# Altium footprint library 13A212Y9.PcbLib: 1 footprints
Each footprint in its own frame and in the unit in brackets; x right, y up, seen from the top. Pads: shape width x height; smd on the part's side, far side on the other; paste and mask are expansions set on the pad; w line width, h text height; cw(c..) or ccw(c..) is an arc to the next point about the centre after c.
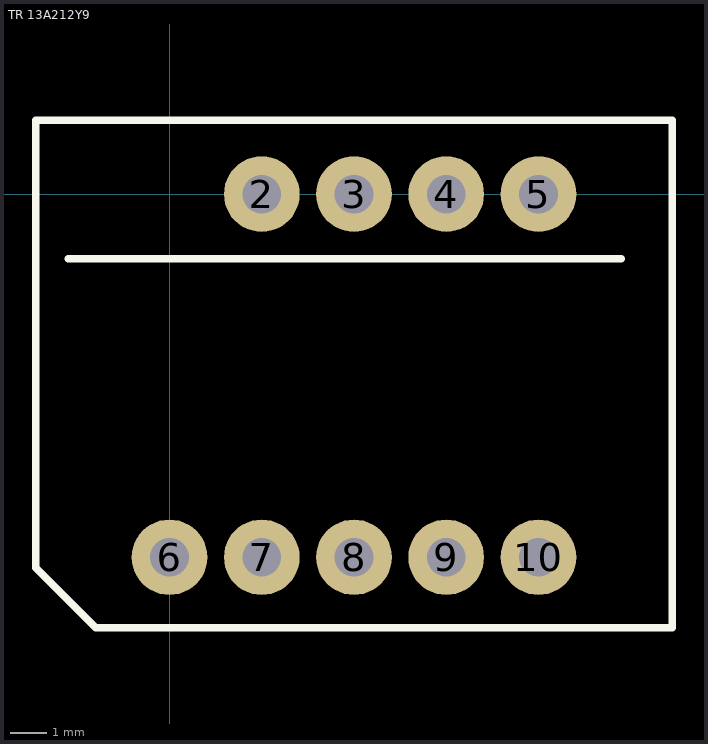
[diagram p0: the footprint, top view; thin cyan lines are the x and y axes]

## TR 13A212Y9 [mil]
pads (9):
  round 82 hole 42: 2(100,0) 3(200,0) 4(300,0) 5(400,0) 6(0,-393.7) 7(100,-393.7) 8(200,-393.7) 9(300,-393.7) 10(400,-393.7)
Top Overlay:
  lines w7.87: -110,-70 490,-70 ; 544.81,-470 -80,-470 -145,-405 -145,80 544.81,80 ; 545,-470 545,80
3D body "transformador SMPS 13A212Y9.STEP": height 649.61, standoff -370.84, extent -132.68,-450.91 532.68,60.9